# EAGLE library part PINHD-1X9 (library pinhead)
PIN HEADER
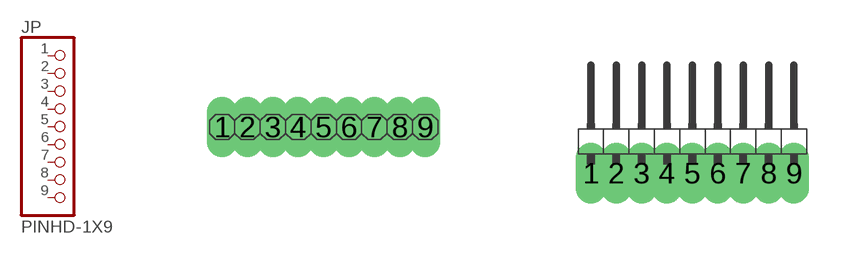
[diagram p3: symbol with the pads of 1X09; footprints 1X09, 1X09/90]

Designator prefix JP

## PINHD-1X9  [1X09]
1  1  pas
2  2  pas
3  3  pas
4  4  pas
5  5  pas
6  6  pas
7  7  pas
8  8  pas
9  9  pas

## PINHD-1X9/90  [1X09/90]
Pads as for 1X09

## Footprint 1X09 (pad centres in mm)
PIN HEADER
drill 0.254 long: 1 -2.54,0; 2 -1.905,0; 3 -1.27,0; 4 -0.635,0; 5 0,0; 6 0.635,0; 7 1.27,0; 8 1.905,0; 9 2.54,0

## Footprint 1X09/90 (pad centres in mm)
PIN HEADER
drill 0.254 long: 1 -2.54,-0.953; 2 -1.905,-0.953; 3 -1.27,-0.953; 4 -0.635,-0.953; 5 0,-0.953; 6 0.635,-0.953; 7 1.27,-0.953; 8 1.905,-0.953; 9 2.54,-0.953